# EAGLE library part DRV8837DSGR (library Deegou_IC)
DRV8837DSGR, DC Motor Driver IC see datasheet for more information datasheet <http://www.ti.com/lit/ds/symlink/drv8837.pdf>
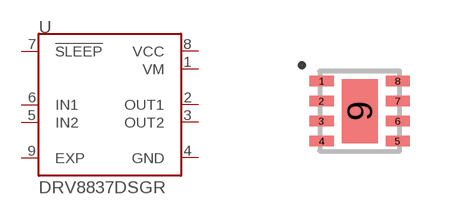
[diagram p39: symbol with the pads of SON50P200X200X80-9N; footprint SON50P200X200X80-9N]

Designator prefix U

## DRV8837DSGR (AVAILABILITY: Unavailable; DESCRIPTION: 1.8A Low Voltage Brushed DC Motor Driver _PWM Ctrl_ 8-WSON -40 to 85; MF: Texas Instruments; MP: DRV8837DSGR; PACKAGE: WSON-8 Texas Instruments; PRICE: None)  [SON50P200X200X80-9N]
1  VM  pwr
2  OUT1  out
3  OUT2  out
4  GND  pwr
5  IN2  in
6  IN1  in
7  !SLEEP  in
8  VCC  pwr
9  EXP  pas

## Footprint SON50P200X200X80-9N (pad centres in mm)
WSON-8 Package
smd 0.61 x 0.27: 1 -0.955,0.75; 2 -0.955,0.25; 3 -0.955,-0.25; 4 -0.955,-0.75; 5 0.955,-0.75; 6 0.955,-0.25; 7 0.955,0.25; 8 0.955,0.75
smd 0.9 x 1.6: 9 0,0